# Altium footprint library PcbLib1.PcbLib: 20 footprints (part 2 of 2)
Each footprint in its own frame and in the unit in brackets; x right, y up, seen from the top. Pads: shape width x height; smd on the part's side, far side on the other; paste and mask are expansions set on the pad; w line width, h text height; cw(c..) or ccw(c..) is an arc to the next point about the centre after c.
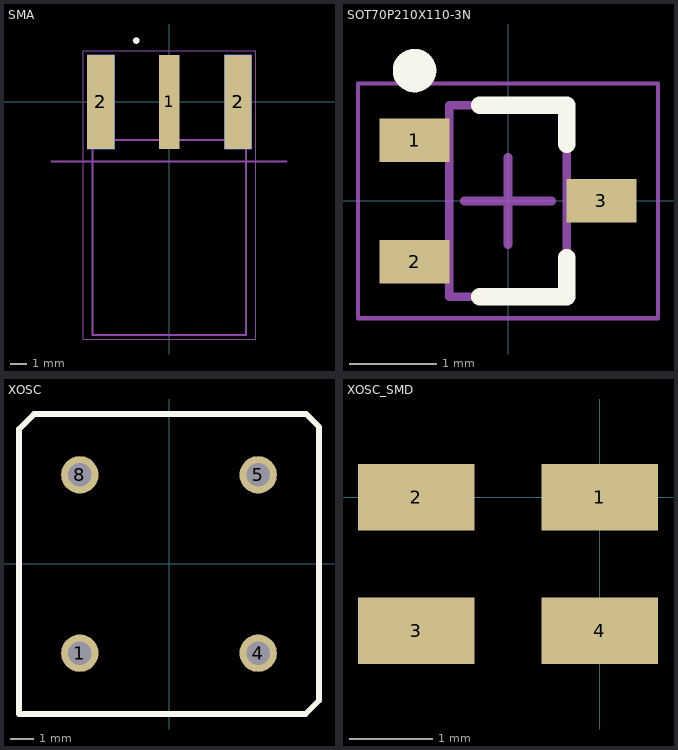
[diagram p1: the footprints below, top view; thin cyan lines are the x and y axes]

## SMA [mil]
pads (5):
  rect 50x230 smd: 1(0,0)
  rect 67x230 smd: 2(-167.5,0) 2(167.5,0)
  rect 67x230 smd far side: 2(-167.5,0) 2(167.5,0)
Top Overlay:
  circle w7.87: c-80.71,149.61 r3.94
Mechanical 13:
  circle w7.87: c-81.69,149.61 r3.94
  lines w5: -287.4,-145 -187.5,-145 ; 285.43,-145 187.5,-145 ; -187.5,-145 -187.5,-568.5 187.5,-568.5 187.5,-145 ; -187.5,-145 187.5,-145 ; -187.5,-145 -187.5,-93.5 187.5,-93.5 187.5,-145
  text "PCB Edge" at 253.94,-131.89 h50
Mechanical 15:
  lines w1.97: -210.84,-578.74 210.84,-578.74 210.84,124.84 -210.84,124.84 -210.84,-578.74
3D body "SMA_Launch_RibbedFlange.SLDPRT": height 175.69, standoff -136.31, extent -187.5,-496.06 187.5,63.94

## SOT70P210X110-3N [mm] "SOT23, 3-Leads, Body 2.00x2.10mm, Pitch 0.70mm, IPC Medium Density"
height 1.1
pads (3):
  rect 0.8x0.5 smd: 1(-1.075,0.7) 2(-1.075,-0.7) 3(1.075,0)
Top Overlay:
  circle w0.25: c-1.075,1.5 r0.125
  lines w0.2: -0.325,-1.1 0.675,-1.1 0.675,-0.65 ; -0.325,1.1 0.675,1.1 0.675,0.65
Mechanical 13:
  lines w0.1: -0.675,-1.1 0.675,-1.1 0.675,1.1 -0.675,1.1 -0.675,-1.1
Mechanical 15:
  lines w0.05: -1.725,-1.35 1.725,-1.35 1.725,1.35 -1.725,1.35 -1.725,-1.35
  lines w0.1: -0.5,0 0.5,0 ; 0,-0.5 0,0.5
3D body "SOT70P210X110-3N.step": height 1.1, standoff 0, extent -1.2,-1.1 1.2,1.1

## XOSC [mm]
pads (4):
  round 1.6 hole 1: 1(-3.825,-3.825) 4(3.8,-3.825) 5(3.8,3.8) 8(-3.825,3.8)
Top Overlay:
  lines w0.254: -6.425,-6.425 5.825,-6.425 6.4,-5.85 6.4,5.85 5.85,6.4 -5.775,6.4 -6.425,5.75 -6.425,-6.425
3D body "User Library-OSC_DIP-8.step": height 4.6, standoff -2, extent -6.425,-6.375 6.275,6.325

## XOSC_SMD [mm]
pads (4):
  rect 1.4x0.8 smd: 1(0,0) 2(-2.2,0) 3(-2.2,-1.6) 4(0,-1.6)